# Altium footprint library TPI_Carte_Alimentation.PcbLib: 6 footprints
Each footprint in its own frame and in the unit in brackets; x right, y up, seen from the top. Pads: shape width x height; smd on the part's side, far side on the other; paste and mask are expansions set on the pad; w line width, h text height; cw(c..) or ccw(c..) is an arc to the next point about the centre after c.
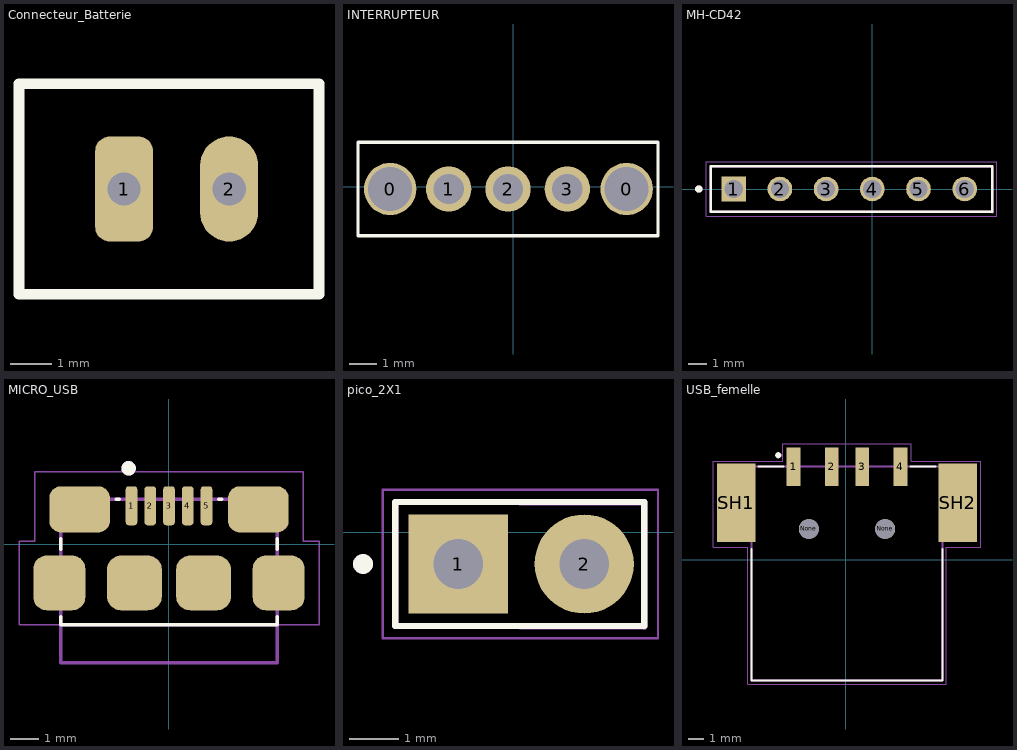
[diagram p0: the footprints below, top view; thin cyan lines are the x and y axes]

## Connecteur_Batterie [mm]
pads (2):
  rrect50% 1.4x2.54 hole 0.8: 1(7.59,-24.875)
  oval 1.4x2.54 hole 0.8: 2(10.13,-24.875)
Top Overlay:
  lines w0.254: 5.05,-27.415 7.59,-27.415 12.3,-27.415 12.3,-22.335 5.05,-22.335 5.05,-27.415

## INTERRUPTEUR [mm]
pads (5):
  round 1.905 hole 1.6: 0(-4.482,-0.079) 0(4.126,-0.079)
  round 1.65 hole 1.1: 1(-2.351,-0.079) 2(-0.192,-0.079) 3(1.967,-0.079)
Top Overlay:
  lines w0.127: -5.653,-1.779 -4.973,-1.779 5.269,-1.779 5.269,-0.372 5.269,1.621 -5.653,1.621 -5.653,-1.779

## MH-CD42 [mm]
pads (6):
  rect 1.35x1.35 hole 1: 1(-7.62,0)
  round 1.35 hole 1: 2(-5.08,0) 3(-2.54,0) 4(0,0) 5(2.54,0) 6(5.08,0)
Top Overlay:
  circle w0.2: c-9.54,0 r0.1
  lines w0.127: -8.89,-1.25 6.604,-1.25 6.604,1.25 -8.89,1.25 -8.89,-1.25
Mechanical 4:
  circle w0.2: c-9.54,0 r0.1
  circle w0.2: c-9.54,0 r0.1
  lines w0.127: -8.89,-1.034 -8.89,1.25 ; 6.602,1.206 -8.89,1.25 ; 6.624,-1.25 -8.89,-1.25 ; -8.89,-1.25 6.604,-1.294 6.604,1.206 -8.89,1.25 ; -8.89,-1.25 -8.89,1.25
Mechanical 16:
  lines w0.05: -9.14,-1.5 6.858,-1.5 6.858,1.5 -9.14,1.5 -9.14,-1.5

## MICRO_USB [mm] "Connecteur USB micro B"
pads (11):
  rrect50% 0.4x1.35 smd: 1(-1.3,1.338) 2(-0.65,1.338) 3(0,1.338) 4(0.65,1.338) 5(1.3,1.338)
  rrect50% 1.8x1.9 smd: ""(-3.8,-1.338) ""(3.8,-1.338)
  rrect50% 2.1x1.6 smd: ""(-3.1,1.212) ""(3.1,1.212)
  rrect50% 1.9x1.9 smd: ""(-1.2,-1.338) ""(1.2,-1.338)
Top Overlay:
  circle w0.3: c-1.4,2.638 r0.1
  lines w0.127: -3.75,-2.512 -3.75,-2.788 3.75,-2.788 3.75,-2.512 ; -3.75,-0.162 -3.75,0.188 ; -1.83,1.563 -1.72,1.563 ; 1.72,1.563 1.83,1.563 ; 3.75,-0.162 3.75,0.188
Mechanical 1:
  circle w0.3: c-1.4,2.638 r0.1
  lines w0.127: -3.75,-2.788 3.75,-2.788 ; -3.75,-2.788 -3.75,1.563 3.75,1.563 3.75,-2.788 ; -3.75,-2.788 -3.75,-4.098 3.75,-4.098 3.75,-2.788
Mechanical 15:
  lines w0.05: -5.2,-2.788 -5.2,0.113 -4.65,0.113 -4.65,2.512 -4.15,2.512 4.65,2.512 4.65,0.113 5.2,0.113 5.2,-2.788 4.775,-2.788 -5.2,-2.788

## pico_2X1 [mm]
pads (2):
  rect 2x2 hole 1: 1(-6.477,-0.635)
  round 2 hole 1: 2(-3.937,-0.635)
Top Overlay:
  circle w0.2: c-8.397,-0.635 r0.1
  lines w0.127: -7.747,-1.885 -2.725,-1.885 -2.725,0.615 -7.747,0.615 -7.747,-1.885
Mechanical 4:
  circle w0.2: c-8.397,-0.635 r0.1
  circle w0.2: c-8.397,-0.635 r0.1
  lines w0.127: -7.747,-1.669 -7.747,0.615 ; -2.75,0.601 -7.747,0.615 ; -2.725,-1.885 -7.747,-1.885 ; -7.747,-1.885 -7.747,0.615 ; -7.747,-1.885 -2.725,-1.899 -2.725,0.615 -7.747,0.615
Mechanical 16:
  lines w0.05: -7.997,-2.135 -7.997,0.865 -2.45,0.865 -2.45,-2.135 -7.997,-2.135

## USB_femelle [mm]
pads (8):
  rect 0.9x2.5 smd: 1(-3.429,6.096) 2(-0.929,6.096) 3(1.071,6.096) 4(3.571,6.096)
  round 1.3 hole 1.3 unplated: None(-2.429,2.016) None(2.571,2.016)
  rect 2.5x5.15 smd: SH1(-7.179,3.721) SH2(7.321,3.721)
Top Overlay:
  circle w0.2: c-4.429,6.846 r0.1
  lines w0.127: -6.179,0.696 -6.179,-7.904 6.321,-7.904 6.321,0.696 ; -5.729,6.096 -4.079,6.096 ; 4.221,6.096 5.871,6.096
Mechanical 4:
  circle w0.2: c-3.429,6.846 r0.1
  circle w0.2: c-3.429,6.846 r0.1
  lines w0.127: -6.179,-7.904 -6.179,6.096 ; -6.179,-7.904 6.321,-7.904 ; -6.179,-7.904 -6.179,6.096 ; -6.179,-7.904 6.321,-7.904 ; -6.179,6.096 6.321,6.096 ; -6.179,6.096 6.321,6.096 ; 6.321,-7.904 6.321,6.096 ; 6.321,-7.904 6.321,6.096
Mechanical 16:
  lines w0.05: -8.679,0.821 -8.679,6.461 -4.129,6.461 -4.129,7.596 4.271,7.596 4.271,6.461 8.821,6.461 8.821,0.821 6.571,0.821 6.571,-8.154 -6.429,-8.154 -6.429,0.821 -8.679,0.821